# EAGLE library part S5750_20_ND40PIN_CONNECTOR (library DMFlib)
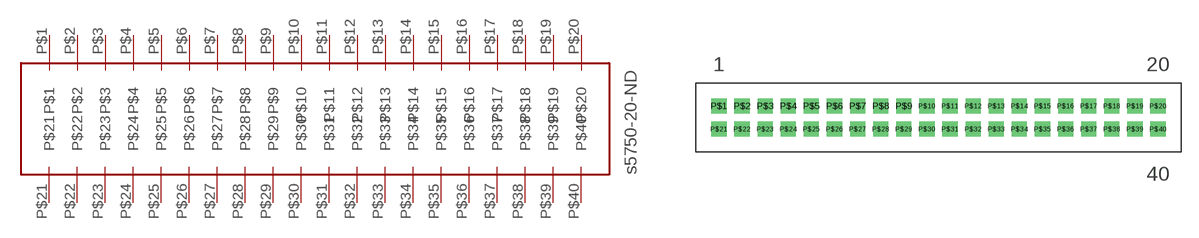
[diagram p3: symbol with the pads of S5750-20_ND; footprint S5750-20_ND]

Designator prefix CONX

## S5750_20_ND40PIN_CONNECTOR  [S5750-20_ND]
P$1  P$1
P$2  P$2
P$3  P$3
P$4  P$4
P$5  P$5
P$6  P$6
P$7  P$7
P$8  P$8
P$9  P$9
P$10  P$10
P$11  P$11
P$12  P$12
P$13  P$13
P$14  P$14
P$15  P$15
P$16  P$16
P$17  P$17
P$18  P$18
P$19  P$19
P$20  P$20
P$21  P$21
P$22  P$22
P$23  P$23
P$24  P$24
P$25  P$25
P$26  P$26
P$27  P$27
P$28  P$28
P$29  P$29
P$30  P$30
P$31  P$31
P$32  P$32
P$33  P$33
P$34  P$34
P$35  P$35
P$36  P$36
P$37  P$37
P$38  P$38
P$39  P$39
P$40  P$40

## Footprint S5750-20_ND (pad centres in mm)
drill 0.8 square: P$1 -18,0; P$2 -16,0; P$3 -14,0; P$4 -12,0; P$5 -10,0; P$6 -8,0; P$7 -6,0; P$8 -4,0; P$9 -2,0; P$10 0,0; P$11 2,0; P$12 4,0; P$13 6,0; P$14 8,0; P$15 10,0; P$16 12,0; P$17 14,0; P$18 16,0; P$19 18,0; P$20 20,0; P$21 -18,-2; P$22 -16,-2; P$23 -14,-2; P$24 -12,-2; P$25 -10,-2; P$26 -8,-2; P$27 -6,-2; P$28 -4,-2; P$29 -2,-2; P$30 0,-2; P$31 2,-2; P$32 4,-2; P$33 6,-2; P$34 8,-2; P$35 10,-2; P$36 12,-2; P$37 14,-2; P$38 16,-2; P$39 18,-2; P$40 20,-2